# Altium footprint library DF636P396DSA.PcbLib: 1 footprints
Each footprint in its own frame and in the unit in brackets; x right, y up, seen from the top. Pads: shape width x height; smd on the part's side, far side on the other; paste and mask are expansions set on the pad; w line width, h text height; cw(c..) or ccw(c..) is an arc to the next point about the centre after c.
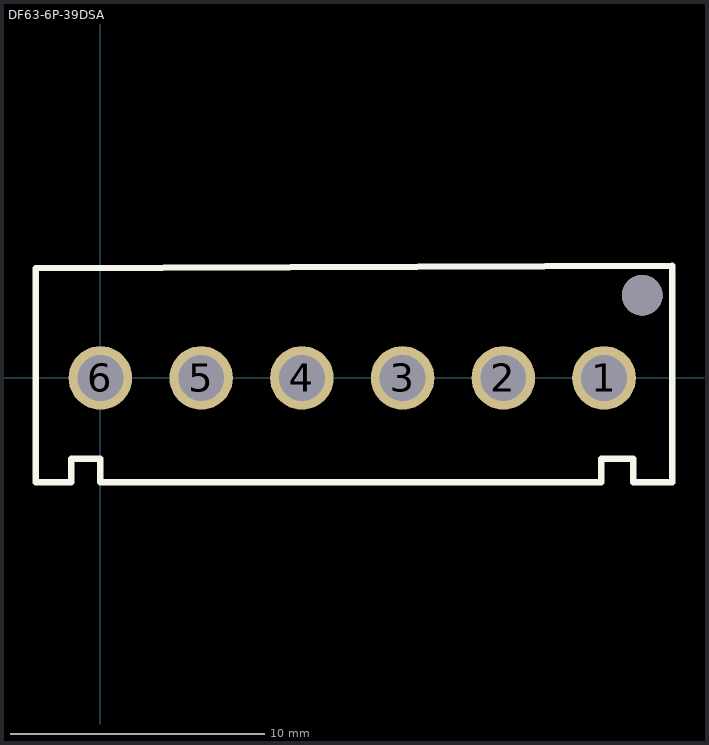
[diagram p0: the footprint, top view; thin cyan lines are the x and y axes]

## DF63-6P-39DSA [mm]
pads (7):
  round 2.5 hole 1.8: 1(19.8,0) 2(15.84,0) 3(11.88,0) 4(7.92,0) 5(3.96,0) 6(0,0)
  round 1.6 hole 1.6: ""(21.3,3.25)
Top Overlay:
  lines w0.254: -2.54,-4.1 -1.143,-4.1 -1.143,-3.175 0,-3.175 0,-4.1 19.685,-4.1 19.685,-3.175 20.955,-3.175 20.955,-4.1 22.479,-4.1 22.479,4.408 -2.54,4.317 -2.54,-4.1
3D body "DF63-6P-3.96DSA.stp": height 3, standoff -10.5, extent -2.242,-3.892 22.258,4.108